# Altium footprint library fcu.PcbLib: 10 footprints
Each footprint in its own frame and in the unit in brackets; x right, y up, seen from the top. Pads: shape width x height; smd on the part's side, far side on the other; paste and mask are expansions set on the pad; w line width, h text height; cw(c..) or ccw(c..) is an arc to the next point about the centre after c.
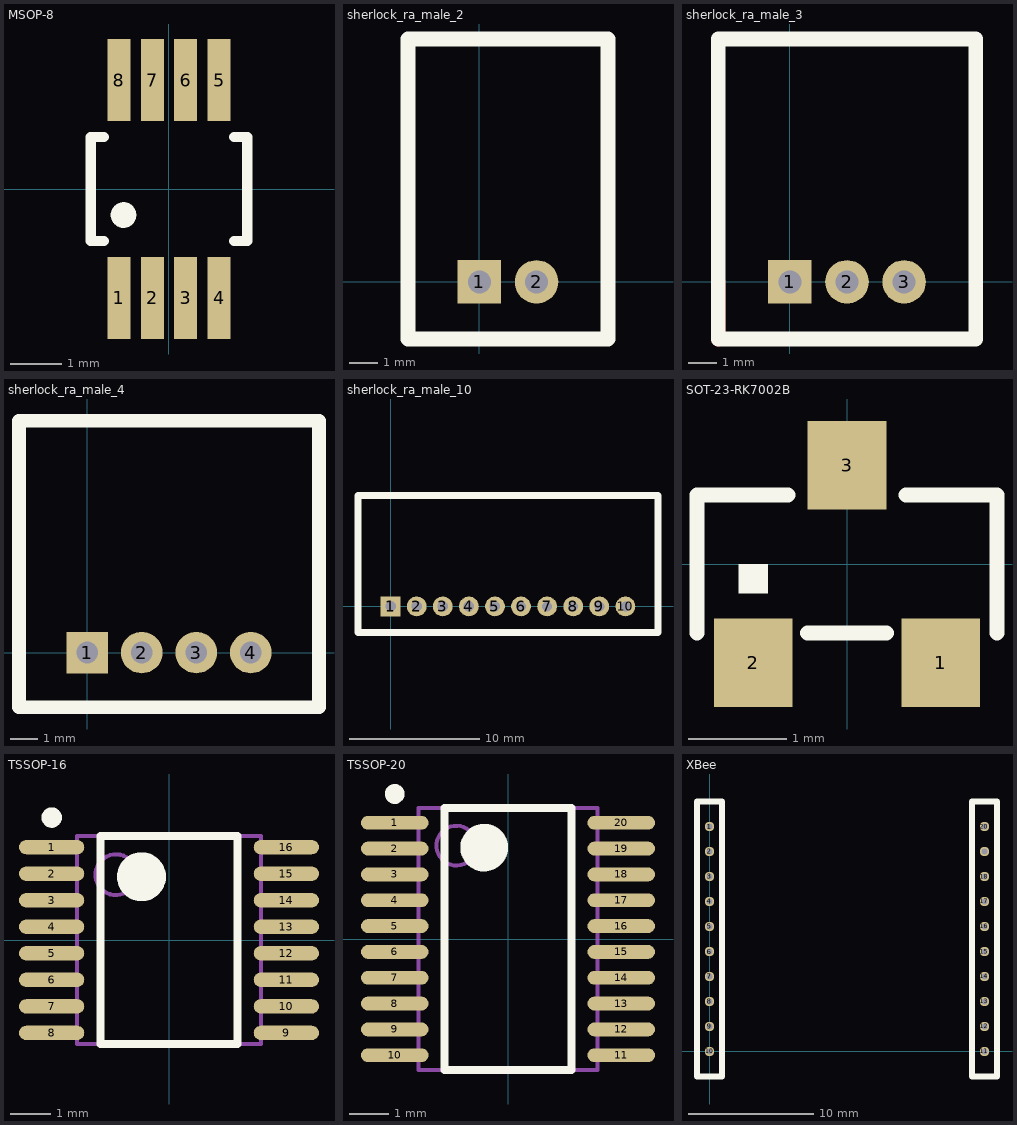
[diagram p0: the footprints below, top view; thin cyan lines are the x and y axes]

## MSOP-8 [mm] "MSOP-8"
height 0.94
pads (8):
  rect 0.45x1.6 smd: 1(-0.975,-2.125) 2(-0.325,-2.125) 3(0.325,-2.125) 4(0.975,-2.125) 5(0.975,2.125) 6(0.325,2.125) 7(-0.325,2.125) 8(-0.975,2.125)
Top Overlay:
  circle w0.25: c-0.887,-0.508 r0.125
  lines w0.2: -1.27,-1.016 -1.524,-1.016 -1.524,1.016 -1.27,1.016 ; 1.27,-1.016 1.524,-1.016 1.524,1.016 1.27,1.016

## sherlock_ra_male_2 [mil]
pads (2):
  rect 60x60 hole 31.5: 1(0,0)
  round 60 hole 31.5: 2(78.74,0)
Top Overlay:
  lines w20: -98.43,-78.74 -98.43,334.65 177.17,334.65 177.17,-78.74 -98.43,-78.74

## sherlock_ra_male_3 [mil]
pads (3):
  rect 60x60 hole 31.5: 1(0,0)
  round 60 hole 31.5: 2(78.74,0) 3(157.48,0)
Top Layer:
  lines w20: -98.43,-78.74 -98.43,0
Top Overlay:
  lines w20: -98.43,-78.74 255.91,-78.74 255.91,334.65 -98.43,334.65 -98.43,-78.74

## sherlock_ra_male_4 [mil]
pads (4):
  rect 60x60 hole 31.5: 1(0,0)
  round 60 hole 31.5: 2(78.74,0) 3(157.48,0) 4(236.22,0)
Top Overlay:
  lines w20: -98.43,-78.74 334.65,-78.74 334.65,334.65 -98.43,334.65 -98.43,-78.74

## sherlock_ra_male_10 [mil]
pads (10):
  rect 60x60 hole 31.5: 1(0,0)
  round 60 hole 31.5: 2(78.74,0) 3(157.48,0) 4(236.22,0) 5(314.96,0)
  round 60 hole 30: 6(393.7,0) 7(472.44,0) 8(551.18,0) 9(629.92,0) 10(708.66,0)
Top Overlay:
  lines w20: -98.43,-78.74 807.09,-78.74 807.09,334.65 -98.43,334.65 -98.43,-78.74

## SOT-23-RK7002B [mm] "SOT-23; 3 Leads; Body 3.0 x 2.6 mm, inc. leads (LxW max)"
height 1.1
pads (3):
  rect 0.8x0.9 smd paste-0.025 mask+0: 1(0.95,-1) 2(-0.95,-1) 3(0,1)
Top Overlay:
  rectangle: -1.1,-0.3 -0.8,0
  lines w0.152: -1.52,-0.7 -1.52,0.7 -0.6,0.7 ; -0.4,-0.7 0.4,-0.7 ; 0.6,0.7 1.52,0.7 1.52,-0.7
3D body: height 1.1, standoff 0, extent -1.5,-1.25 1.5,1.25

## TSSOP-16 [mm]
height 1.1
pads (16):
  oval 1.6x0.35 smd: 1(-2.875,2.275) 2(-2.875,1.625) 3(-2.875,0.975) 4(-2.875,0.325) 5(-2.875,-0.325) 6(-2.875,-0.975) 7(-2.875,-1.625) 8(-2.875,-2.275) 9(2.875,-2.275) 10(2.875,-1.625) 11(2.875,-0.975) 12(2.875,-0.325) 13(2.875,0.325) 14(2.875,0.975) 15(2.875,1.625) 16(2.875,2.275)
Top Overlay:
  circle w0.25: c-2.875,3 r0.125
  circle w0.6: c-0.675,1.55 r0.3
  lines w0.2: -1.675,-2.55 -1.675,2.55 1.675,2.55 1.675,-2.55 -1.675,-2.55
Mechanical 13:
  circle w0.1: c-1.3,1.6 r0.5
  lines w0.1: -2.25,-2.55 -2.25,2.55 2.25,2.55 2.25,-2.55 -2.25,-2.55
3D body: height 1.1, standoff 0.15, extent -2.25,-2.55 2.25,2.55

## TSSOP-20 [mm]
height 1.2
pads (20):
  oval 1.7x0.35 smd: 1(-2.85,2.925) 2(-2.85,2.275) 3(-2.85,1.625) 4(-2.85,0.975) 5(-2.85,0.325) 6(-2.85,-0.325) 7(-2.85,-0.975) 8(-2.85,-1.625) 9(-2.85,-2.275) 10(-2.85,-2.925) 11(2.85,-2.925) 12(2.85,-2.275) 13(2.85,-1.625) 14(2.85,-0.975) 15(2.85,-0.325) 16(2.85,0.325) 17(2.85,0.975) 18(2.85,1.625) 19(2.85,2.275) 20(2.85,2.925)
Top Overlay:
  circle w0.25: c-2.85,3.65 r0.125
  circle w0.6: c-0.6,2.3 r0.3
  lines w0.2: -1.6,-3.3 -1.6,3.3 1.6,3.3 1.6,-3.3 -1.6,-3.3
Mechanical 13:
  circle w0.1: c-1.3,2.35 r0.5
  lines w0.1: -2.25,-3.3 -2.25,3.3 2.25,3.3 2.25,-3.3 -2.25,-3.3
3D body: height 1.2, standoff 0.1, extent -2.25,-3.3 2.25,3.3

## XBee [mm]
pads (20):
  round 0.75 hole 0.51: 1(0,18) 2(0,16) 3(0,14) 4(0,12) 5(0,10) 6(0,8) 7(0,6) 8(0,4) 9(0,2) 10(0,0) 11(22,0) 12(22,2) 13(22,4) 14(22,6) 15(22,8) 16(22,10) 17(22,12) 18(22,14) 19.(22,16) 20(22,18)
Top Overlay:
  lines w0.508: -1,-2 1,-2 1,20 -1,20 -1,-2 ; 21,-2 23,-2 23,20 21,20 21,-2

## XBEE_SMT [mm]